# Altium schematic symbol library 1.1 - 电源类芯片.SchLib: 82 symbols
Pins are listed as number, name and electrical type; pins without a type are passive.

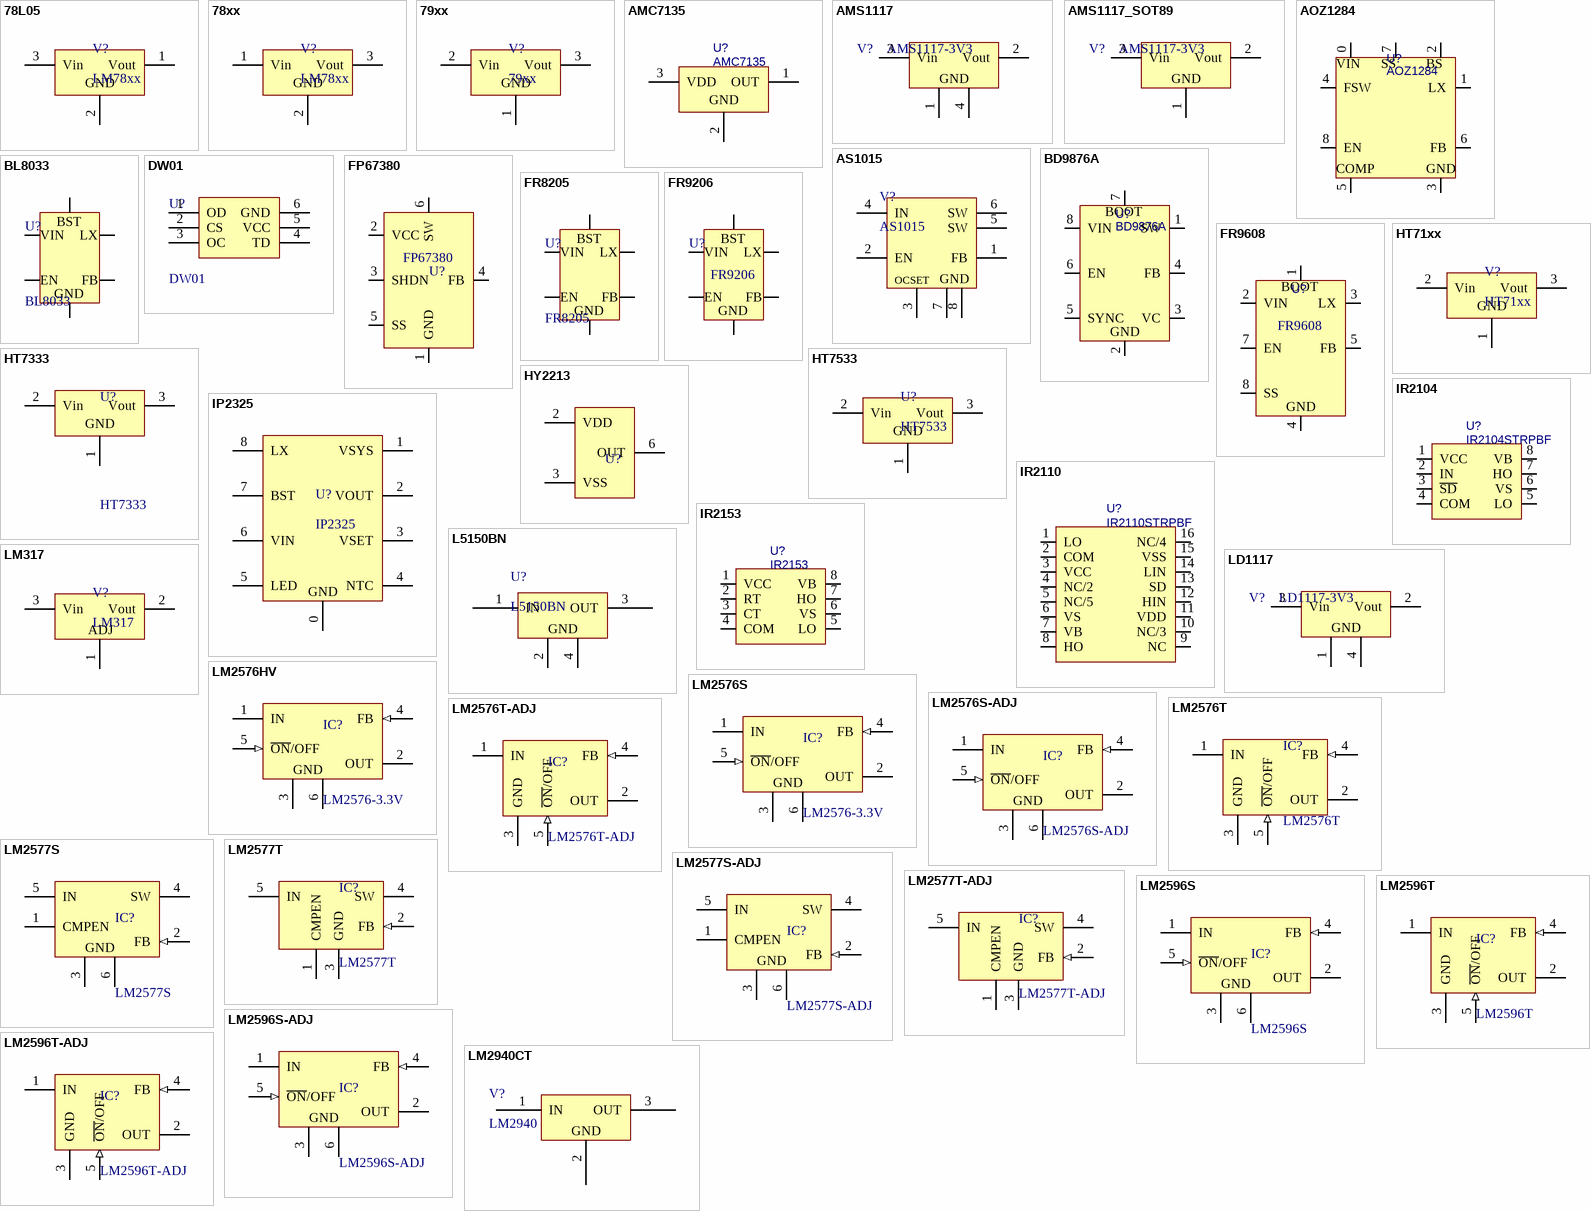
[diagram p0: symbols 78L05 to LM2940CT]

## 78L05
designator V?, comment LM78xx
5V/100mA线性稳压器; BOM名称: 线性稳压芯片; 封装库来自淘宝卖家 ID：黄晶宝石: 其他店铺购入均为盗版，请立即申请退款，本店现金奖励5~20元; 联系卖家 免费查找封装: 唯一出售店铺网址https://shop463601444.taobao.com
footprint TO92 (TO, Flat Index; 3 In-Line, Axial Leads; Body Dia. 4.8mm; Leads 0.48 x 0.5 mm (max))
pins: 1 Vout, 2 GND, 3 Vin

## 78xx
designator V?, comment LM78xx
LM78XX系列线性稳压芯片; BOM名称: 线性稳压芯片; 封装库来自淘宝卖家 ID：黄晶宝石: 其他店铺购入均为盗版，请立即申请退款，本店现金奖励5~20元; 联系卖家 免费查找封装: 唯一出售店铺网址https://shop463601444.taobao.com
footprint TO252 (252晶体管)
footprint TO220A (220，3脚晶体管)
footprint TO220B (220，3脚晶体管)
footprint TO220C (220，3脚晶体管)
pins: 1 Vin, 2 GND, 3 Vout

## 79xx
designator V?
LM79XX系列线性稳压芯片; BOM名称: 线性稳压芯片; 封装库来自淘宝卖家 ID：黄晶宝石: 其他店铺购入均为盗版，请立即申请退款，本店现金奖励5~20元; 联系卖家 免费查找封装: 唯一出售店铺网址https://shop463601444.taobao.com
footprint TO252 (252晶体管)
footprint TO220A (220，3脚晶体管)
footprint TO220B (220，3脚晶体管)
footprint TO220C (220，3脚晶体管)
pins: 1 GND, 2 Vin, 3 Vout

## AMC7135
designator U?
恒流350mA LED驱动芯片; 封装库来自淘宝卖家 ID：黄晶宝石: 其他店铺购入均为盗版，请立即申请退款，本店现金奖励5~20元; 联系卖家 免费查找封装: 唯一出售店铺网址https://shop463601444.taobao.com
footprint SOT-89
pins: 1 OUT, 2 GND, 3 VDD

## AMS1117
designator V?, comment AMS1117-3V3
三端稳压芯片; BOM名称: 稳压芯片; 封装库来自淘宝卖家 ID：黄晶宝石: 其他店铺购入均为盗版，请立即申请退款，本店现金奖励5~20元; 联系卖家 免费查找封装: 唯一出售店铺网址https://shop463601444.taobao.com
footprint SOT223_L (6.4x7x1.6mm(长宽高))
footprint SOT223_M (6.4x7x1.6mm(长宽高))
footprint SOT223_N (6.4x7x1.6mm(长宽高))
pins: 1 GND, 2 Vout, 3 Vin, 4 GND

## AMS1117_SOT89
designator V?, comment AMS1117-3V3
三端稳压芯片; BOM名称: 稳压芯片; 封装库来自淘宝卖家 ID：黄晶宝石: 其他店铺购入均为盗版，请立即申请退款，本店现金奖励5~20元; 联系卖家 免费查找封装: 唯一出售店铺网址https://shop463601444.taobao.com
footprint SOT89_L (4.6x4.3x1.6mm(长宽高))
footprint SOT89_N (4.6x4.3x1.6mm(长宽高))
footprint SOT89_M (4.6x4.3x1.6mm(长宽高))
pins: 1 GND, 2 Vout, 3 Vin

## AOZ1284
designator U?
4A/36V DC-DC降压芯片, Adjustable  switching  frequency  from  200kHz  to  2MHz; 联系卖家 免费查找封装: 唯一出售店铺网址https://shop463601444.taobao.com
footprint SOIC-8_EP (5*6*1.8mm（长宽高）封装库来自淘宝卖家 ID：黄晶宝石)
pins: 0 VIN "Supply Voltage Pin.", 1 LX "PWM Output Pin.  Connect to inductor.", 2 BST "Bootstrap Voltage Pin. Driver supply for High Side NMOS.  Connected to 100nF capacitor between BST and LX.", 3 GND "Ground Pin.", 4 FSW "Frequency Bias Pin.  Connect to resistor to determine switching frequency.", 5 COMP "Compensation Pin.  Connect to Resistor and Capacitor for system stability.", 6 FB "Feedback Pin.  It is regulated to 0.8V.  The FB pin is used to determine the PWM output voltage via a resistor divider between the Output and Ground.", 7 SS "Soft Start Pin.", 8 EN "Enable Pin."
text: BS

## AS1015
designator V?
可调升压芯片; 封装库来自淘宝卖家 ID：黄晶宝石: 其他店铺购入均为盗版，请立即申请退款，本店现金奖励5~20元; 联系卖家 免费查找封装: 唯一出售店铺网址https://shop463601444.taobao.com; BOM名称: 可调升压芯片
footprint SOP8_N (5*6*1.8mm（长宽高）)
footprint SOP8_L (5*6*1.8mm（长宽高）)
footprint SOP8_M (5*6*1.8mm（长宽高）)
pins: 1 FB (power), 2 EN (power), 3 OCSET (power), 4 IN (power), 5 SW (power), 6 SW (power), 7 GND (power), 8 GND (power)

## BD9876A
designator U?
3A, 42V, 300kHz Step-Down Converter; 联系卖家 免费查找封装: 唯一出售店铺网址https://shop463601444.taobao.com
footprint SOIC-8_EP (5*6*1.8mm（长宽高)
pins: 0 GND "Ground Pin.", 1 SW "PWM Output Pin.  Connect to inductor.", 2 GND "Ground Pin.", 3 VC "Error amplifier output", 4 FB "Feedback Input. The feedback threshold is 1.222V.", 5 SYNC "Input pin of an external signal for the device synchronized by external signal", 6 EN "Enable Pin.", 7 BOOT "Bootstrap Voltage Pin. Driver supply for High Side NMOS.  Connected to 100nF capacitor between BST and LX.", 8 VIN "Supply Voltage Pin."

## BL8033
designator U?
16V/3A，500KHz, 同步DC-DC降压芯片; BOM名称: DC降压芯片; Datasheet: http://www.belling.com.cn/media/file_object/bel_product/BL8033/datasheet/BL8033_V1.6_en.pdf
footprint SOT23-6L (3x1.6x1.1mm(长宽高))
footprint SOT23-6N (3x1.6x1.1mm(长宽高))
footprint SOT23-6M (3x1.6x1.1mm(长宽高))
pins: 1 GND, 2 SW, 3 VIN, 4 FB, 5 EN, 6 BST
text: LX

## DW01
designator U?
锂电池过流保护IC; BOM名称: 过流保护IC; 封装库来自淘宝卖家 ID：黄晶宝石: 其他店铺购入均为盗版，请立即申请退款，本店现金奖励5~20元; 联系卖家 免费查找封装: 唯一出售店铺网址https://shop463601444.taobao.com
footprint SOT23-6L (3x1.6x1.1mm(长宽高))
footprint SOT23-6N (3x1.6x1.1mm(长宽高))
footprint SOT23-6M (3x1.6x1.1mm(长宽高))
pins: 1 OD, 2 CS, 3 OC, 4 TD, 5 VCC, 6 GND

## FP67380
designator U?, comment FP67380WD  (value not drawn)
1.25MHz 2.5A Current-Mode Step-Up DC/DC Converter; BOM名称: 可调升压芯片; 封装库来自淘宝卖家 ID：黄晶宝石: 其他店铺购入均为盗版，请立即申请退款，本店现金奖励5~20元; 联系卖家 免费查找封装: 唯一出售店铺网址https://shop463601444.taobao.com
footprint DFN6 2x2_L
pins: 0 GND "Ground.", 1 GND "Ground.", 2 VCC "Internal Bias Voltage Input. Connect IN to the input voltage source. Bypass IN to GND with a 10uF or greater capacitor as close to IN as possible.", 3 SHDN "Shutdown Input. Drive SHDN low to turn off the converter. To automatically start the converter, connect SHDN to IN.", 4 FB "Feedback Pin. FB = 0.6V.", 5 SS "Soft-start Input. Connect a soft-start capacitor from SS to GND to soft-start the converter. Leave SS open to inform internal soft-start function.", 6 SW "Switch Node Pin. Connect LX to the inductor and output rectifier."

## FR8205
designator U?
18V, 3A, 500KHz Synchronous Step-DownDC/DC Converter; BOM名称: DC降压芯片; Datasheet: http://www.belling.com.cn/media/file_object/bel_product/BL8033/datasheet/BL8033_V1.6_en.pdf
footprint SOT23-6L (3x1.6x1.1mm(长宽高))
footprint SOT23-6N (3x1.6x1.1mm(长宽高))
footprint SOT23-6M (3x1.6x1.1mm(长宽高))
pins: 1 BST "High side gate drive boost pin.", 2 GND "Ground pin.", 3 FB "0.6v Voltage feedback input pin.", 4 EN "Enable input pin. Connect VIN with a 100kΩ resistor for self-startup.", 5 VIN "Power supply input pin.", 6 LX "Power switching node."

## FR9206
designator U?  (value not drawn)
18V, 3A, 500KHz Synchronous Step-DownDC/DC Converter; BOM名称: DC降压芯片; Datasheet: http://www.belling.com.cn/media/file_object/bel_product/BL8033/datasheet/BL8033_V1.6_en.pdf
footprint SOT23-6L (3x1.6x1.1mm(长宽高))
footprint SOT23-6N (3x1.6x1.1mm(长宽高))
footprint SOT23-6M (3x1.6x1.1mm(长宽高))
footprint SOT563-6 (封装库来自淘宝卖家 ID：黄晶宝石); pin to pad 1>3 3>1 4>6 6>4
pins: 1 GND "Ground pin.", 2 LX "Power switching node.", 3 VIN "Power supply input pin.", 4 FB "0.6v Voltage feedback input pin.", 5 EN "Enable input pin. Connect VIN with a 100kΩ resistor for self-startup.", 6 BST "High side gate drive boost pin."

## FR9608
designator U?, comment FR9608SP  (value not drawn)
28V, 3A, 340KHz Synchronous Step-Down; 联系卖家 免费查找封装: 唯一出售店铺网址https://shop463601444.taobao.com
footprint SOIC-8_EP (5*6*1.8mm（长宽高)
pins: 0 GND "Ground Pin.", 1 BST "Bootstrap Voltage Pin. Driver supply for High Side NMOS.  Connected to 10nF~100nF capacitor between BST and LX.", 2 VIN "Supply Voltage Pin.", 3 LX "PWM Output Pin.  Connect to inductor.", 4 GND "Ground Pin.", 5 FB "Feedback Input. The feedback threshold is 0.925V.", 6 NC hidden "No connection.", 7 EN "Enable Input Pin. Pull high to turn on IC, and pull low to turn off IC. Connect VIN with a 100kΩ resistor for  self-startup.", 8 SS "Soft-start Pin. When the device turns on, a 6μA current begins charging the capacitor which is connected from SS pin to GND. If a 0.1μF capacitor is connected from SS pin to  GND, the soft start time will be 15ms."
text: BOOT

## HT71xx
designator V?
LDO线性稳压芯片; 封装库来自淘宝卖家 ID：黄晶宝石: 其他店铺购入均为盗版，请立即申请退款，本店现金奖励5~20元; 联系卖家 免费查找封装: 唯一出售店铺网址https://shop463601444.taobao.com; BOM名称: LDO线性稳压芯片
footprint SOT89_L (4.6x4.3x1.6mm(长宽高))
footprint SOT89_N (4.6x4.3x1.6mm(长宽高))
footprint SOT89_M (4.6x4.3x1.6mm(长宽高))
footprint TO92A (92晶体管)
footprint TO92B (92晶体管)
pins: 1 GND, 2 Vin, 3 Vout

## HT7333
designator U?
LDO线性稳压芯片; 封装库来自淘宝卖家 ID：黄晶宝石: 其他店铺购入均为盗版，请立即申请退款，本店现金奖励5~20元; 联系卖家 免费查找封装: 唯一出售店铺网址https://shop463601444.taobao.com
footprint SOT89_N (4.6x4.3x1.6mm(长宽高))
pins: 1 GND, 2 Vin, 3 Vout

## HT7533
designator U?
LDO线性稳压芯片; 封装库来自淘宝卖家 ID：黄晶宝石: 其他店铺购入均为盗版，请立即申请退款，本店现金奖励5~20元; 联系卖家 免费查找封装: 唯一出售店铺网址https://shop463601444.taobao.com
footprint SOT89_N (4.6x4.3x1.6mm(长宽高))
pins: 1 GND, 2 Vin, 3 Vout

## HY2213
designator U?  (value not drawn)
HY221系列，1节锂离子/锂聚合物电池充电平衡IC; BOM名称: 1节锂离子/锂聚合物电池充电平衡IC; ComponentLink1Description: Datasheet; ComponentLink1URL: https://www.hycontek.com/wp-content/uploads/DS-HY2213_SC.pdf
footprint SOT23-6N (3x1.6x1.1mm(长宽高))
footprint SOT23-6L (3x1.6x1.1mm(长宽高))
footprint SOT23-6M (3x1.6x1.1mm(长宽高))
pins: 1 NC hidden, 2 VDD, 3 VSS, 4 NC hidden, 5 NC hidden, 6 OUT

## IP2325
designator U?
5V输入双节串联锂电池升压充电IC; BOM名称: 锂电池充电管理; 封装库来自淘宝卖家 ID：黄晶宝石: 其他店铺购入均为盗版，请立即申请退款，本店现金奖励5~20元; 联系卖家 免费查找封装: 唯一出售店铺网址https://shop463601444.taobao.com
footprint SOIC-8_EP (5*6*1.8mm（长宽高）封装库来自淘宝卖家 ID：黄晶宝石)
pins: 0 EPAD, 1 VSYS, 2 VOUT, 3 VSET, 4 NTC, 5 LED, 6 VIN, 7 BST, 8 LX
text: GND

## IR2104
designator U?, comment IR2104STRPBF
600V半桥驱动器; 封装库来自淘宝卖家 ID：黄晶宝石: 其他店铺购入均为盗版，请立即申请退款，本店现金奖励5~20元; 联系卖家 免费查找封装: 唯一出售店铺网址https://shop463601444.taobao.com
footprint SOIC-8_150mil (封装库来自淘宝卖家 ID：黄晶宝石)
pins: 1 VCC, 2 IN, 3 ~{SD}, 4 COM, 5 LO, 6 VS, 7 HO, 8 VB

## IR2110
designator U?, comment IR2110STRPBF
500V高侧和低侧栅极驱动器; 封装库来自淘宝卖家 ID：黄晶宝石: 其他店铺购入均为盗版，请立即申请退款，本店现金奖励5~20元; 联系卖家 免费查找封装: 唯一出售店铺网址https://shop463601444.taobao.com
footprint SOIC-16W (封装库来自淘宝卖家 ID：黄晶宝石，其他均为盗版)
pins: 1 LO, 2 COM, 3 VCC, 4 NC/2, 5 NC/5, 6 VS, 7 VB, 8 HO, 9 NC, 10 NC/3, 11 VDD, 12 HIN, 13 SD, 14 LIN, 15 VSS, 16 NC/4

## IR2153
designator U?
自振荡600V半桥栅极驱动器; 封装库来自淘宝卖家 ID：黄晶宝石: 其他店铺购入均为盗版，请立即申请退款，本店现金奖励5~20元; 联系卖家 免费查找封装: 唯一出售店铺网址https://shop463601444.taobao.com
footprint DIP8-300 (9.4*7.6*3.8(长宽高）)
pins: 1 VCC, 2 RT, 3 CT, 4 COM, 5 LO, 6 VS, 7 HO, 8 VB

## L5150BN
designator U?
5V稳压芯片; 封装库来自淘宝卖家 ID：黄晶宝石: 其他店铺购入均为盗版，请立即申请退款，本店现金奖励5~20元; 联系卖家 免费查找封装: 唯一出售店铺网址https://shop463601444.taobao.com
footprint SOT-223 (SOT223, 4-Leads, Body 6.5x3.5mm, Pitch 2.3mm, Lead Span 7mm, IPC Medium Density)
pins: 1 IN, 2 GND, 3 OUT, 4 GND

## LD1117
designator V?, comment LD1117-3V3
三端稳压芯片; BOM名称: 稳压芯片; 封装库来自淘宝卖家 ID：黄晶宝石: 其他店铺购入均为盗版，请立即申请退款，本店现金奖励5~20元; 联系卖家 免费查找封装: 唯一出售店铺网址https://shop463601444.taobao.com
footprint SOT223_L (6.4x7x1.6mm(长宽高))
footprint SOT223_M (6.4x7x1.6mm(长宽高))
footprint SOT223_N (6.4x7x1.6mm(长宽高))
pins: 1 GND, 2 Vout, 3 Vin, 4 GND

## LM317
designator V?
可调线性稳压芯片; 封装库来自淘宝卖家 ID：黄晶宝石: 其他店铺购入均为盗版，请立即申请退款，本店现金奖励5~20元; 联系卖家 免费查找封装: 唯一出售店铺网址https://shop463601444.taobao.com; BOM名称: 可调线性稳压芯片
footprint TO252 (252晶体管)
footprint TO220A (220，3脚晶体管)
footprint TO220B (220，3脚晶体管)
pins: 1 ADJ, 2 Vout, 3 Vin

## LM2576HV
designator IC?, comment LM2576-3.3V
50V-3A DC-DC降压芯片; BOM名称: DC降压芯片; 封装库来自淘宝卖家 ID：黄晶宝石: 其他店铺购入均为盗版，请立即申请退款，本店现金奖励5~20元; 联系卖家 免费查找封装: 唯一出售店铺网址https://shop463601444.taobao.com
footprint TO263-5A (263，5脚晶体管)
pins: 1 IN (power), 2 OUT (power), 3 GND (power), 4 FB (in), 5 ~{ON}/OFF (in), 6 GND (power)

## LM2576S
designator IC?, comment LM2576-3.3V
3A DC-DC降压芯片; BOM名称: DC降压芯片; 封装库来自淘宝卖家 ID：黄晶宝石: 其他店铺购入均为盗版，请立即申请退款，本店现金奖励5~20元; 联系卖家 免费查找封装: 唯一出售店铺网址https://shop463601444.taobao.com
footprint TO263-5A (263，5脚晶体管)
pins: 1 IN (power), 2 OUT (power), 3 GND (power), 4 FB (in), 5 ~{ON}/OFF (in), 6 GND (power)

## LM2576S-ADJ
designator IC?
3A DC-DC可调降压芯片; BOM名称: DC降压芯片; 封装库来自淘宝卖家 ID：黄晶宝石: 其他店铺购入均为盗版，请立即申请退款，本店现金奖励5~20元; 联系卖家 免费查找封装: 唯一出售店铺网址https://shop463601444.taobao.com
footprint TO263-5A (263，5脚晶体管)
pins: 1 IN (power), 2 OUT (power), 3 GND (power), 4 FB (in), 5 ~{ON}/OFF (in), 6 GND (power)

## LM2576T
designator IC?
3A DC-DC降压芯片; BOM名称: DC降压芯片; 封装库来自淘宝卖家 ID：黄晶宝石: 其他店铺购入均为盗版，请立即申请退款，本店现金奖励5~20元; 联系卖家 免费查找封装: 唯一出售店铺网址https://shop463601444.taobao.com
footprint TO220-5A (220，5脚晶体管)
footprint TO220-5B (220，5脚晶体管)
footprint TO220-5C (220，5脚晶体管)
pins: 1 IN (power), 2 OUT (power), 3 GND (power), 4 FB (in), 5 ~{ON}/OFF (in)

## LM2576T-ADJ
designator IC?
3A DC-DC可调降压芯片; BOM名称: DC降压芯片; 封装库来自淘宝卖家 ID：黄晶宝石: 其他店铺购入均为盗版，请立即申请退款，本店现金奖励5~20元; 联系卖家 免费查找封装: 唯一出售店铺网址https://shop463601444.taobao.com
footprint TO220-5A (220，5脚晶体管)
footprint TO220-5B (220，5脚晶体管)
footprint TO220-5C (220，5脚晶体管)
pins: 1 IN (power), 2 OUT (power), 3 GND (power), 4 FB (in), 5 ~{ON}/OFF (in)

## LM2577S
designator IC?
3A DC-DC升压芯片; BOM名称: DC升压芯片; 封装库来自淘宝卖家 ID：黄晶宝石: 其他店铺购入均为盗版，请立即申请退款，本店现金奖励5~20元; 联系卖家 免费查找封装: 唯一出售店铺网址https://shop463601444.taobao.com
footprint TO263-5A (263，5脚晶体管)
pins: 1 CMPEN, 2 FB (in), 3 GND (power), 4 SW (power), 5 IN (power), 6 GND (power)

## LM2577S-ADJ
designator IC?
3A DC-DC可调升压芯片; BOM名称: DC升压芯片; 封装库来自淘宝卖家 ID：黄晶宝石: 其他店铺购入均为盗版，请立即申请退款，本店现金奖励5~20元; 联系卖家 免费查找封装: 唯一出售店铺网址https://shop463601444.taobao.com
footprint TO263-5A (263，5脚晶体管)
pins: 1 CMPEN, 2 FB (in), 3 GND (power), 4 SW (power), 5 IN (power), 6 GND (power)

## LM2577T
designator IC?
3A DC-DC升压芯片; BOM名称: DC升压芯片; 封装库来自淘宝卖家 ID：黄晶宝石: 其他店铺购入均为盗版，请立即申请退款，本店现金奖励5~20元; 联系卖家 免费查找封装: 唯一出售店铺网址https://shop463601444.taobao.com
footprint TO220-5A (220，5脚晶体管)
footprint TO220-5B (220，5脚晶体管)
footprint TO220-5C (220，5脚晶体管)
pins: 1 CMPEN, 2 FB (in), 3 GND (power), 4 SW (power), 5 IN (power)

## LM2577T-ADJ
designator IC?
3A DC-DC可调升压芯片; BOM名称: DC升压芯片; 封装库来自淘宝卖家 ID：黄晶宝石: 其他店铺购入均为盗版，请立即申请退款，本店现金奖励5~20元; 联系卖家 免费查找封装: 唯一出售店铺网址https://shop463601444.taobao.com
footprint TO220-5A (220，5脚晶体管)
footprint TO220-5B (220，5脚晶体管)
footprint TO220-5C (220，5脚晶体管)
pins: 1 CMPEN, 2 FB (in), 3 GND (power), 4 SW (power), 5 IN (power)

## LM2596S
designator IC?
3A DC-DC降压芯片; BOM名称: DC降压芯片; 封装库来自淘宝卖家 ID：黄晶宝石: 其他店铺购入均为盗版，请立即申请退款，本店现金奖励5~20元; 联系卖家 免费查找封装: 唯一出售店铺网址https://shop463601444.taobao.com
footprint TO263-5A (263，5脚晶体管)
pins: 1 IN (power), 2 OUT (power), 3 GND (power), 4 FB (in), 5 ~{ON}/OFF (in), 6 GND (power)

## LM2596S-ADJ
designator IC?
3A DC-DC可调降压芯片; BOM名称: DC降压芯片; 封装库来自淘宝卖家 ID：黄晶宝石: 其他店铺购入均为盗版，请立即申请退款，本店现金奖励5~20元; 联系卖家 免费查找封装: 唯一出售店铺网址https://shop463601444.taobao.com
footprint TO263-5A (263，5脚晶体管)
pins: 1 IN (power), 2 OUT (power), 3 GND (power), 4 FB (in), 5 ~{ON}/OFF (in), 6 GND (power)

## LM2596T
designator IC?
3A DC-DC降压芯片; BOM名称: DC降压芯片; 封装库来自淘宝卖家 ID：黄晶宝石: 其他店铺购入均为盗版，请立即申请退款，本店现金奖励5~20元; 联系卖家 免费查找封装: 唯一出售店铺网址https://shop463601444.taobao.com
footprint TO220-5A (220，5脚晶体管)
footprint TO220-5B (220，5脚晶体管)
footprint TO220-5C (220，5脚晶体管)
pins: 1 IN (power), 2 OUT (power), 3 GND (power), 4 FB (in), 5 ~{ON}/OFF (in)

## LM2596T-ADJ
designator IC?
3A DC-DC可调降压芯片; BOM名称: DC降压芯片; 封装库来自淘宝卖家 ID：黄晶宝石: 其他店铺购入均为盗版，请立即申请退款，本店现金奖励5~20元; 联系卖家 免费查找封装: 唯一出售店铺网址https://shop463601444.taobao.com
footprint TO220-5A (220，5脚晶体管)
footprint TO220-5B (220，5脚晶体管)
footprint TO220-5C (220，5脚晶体管)
pins: 1 IN (power), 2 OUT (power), 3 GND (power), 4 FB (in), 5 ~{ON}/OFF (in)

## LM2940CT
designator V?, comment LM2940
直插-低压差线性稳压器; BOM名称: 5V稳压芯片; 封装库来自淘宝卖家 ID：黄晶宝石: 其他店铺购入均为盗版，请立即申请退款，本店现金奖励5~20元; 联系卖家 免费查找封装: 唯一出售店铺网址https://shop463601444.taobao.com
footprint TO220A (220，3脚晶体管)
footprint TO220B (220，3脚晶体管)
pins: 1 IN (power), 2 GND (power), 3 OUT (power)

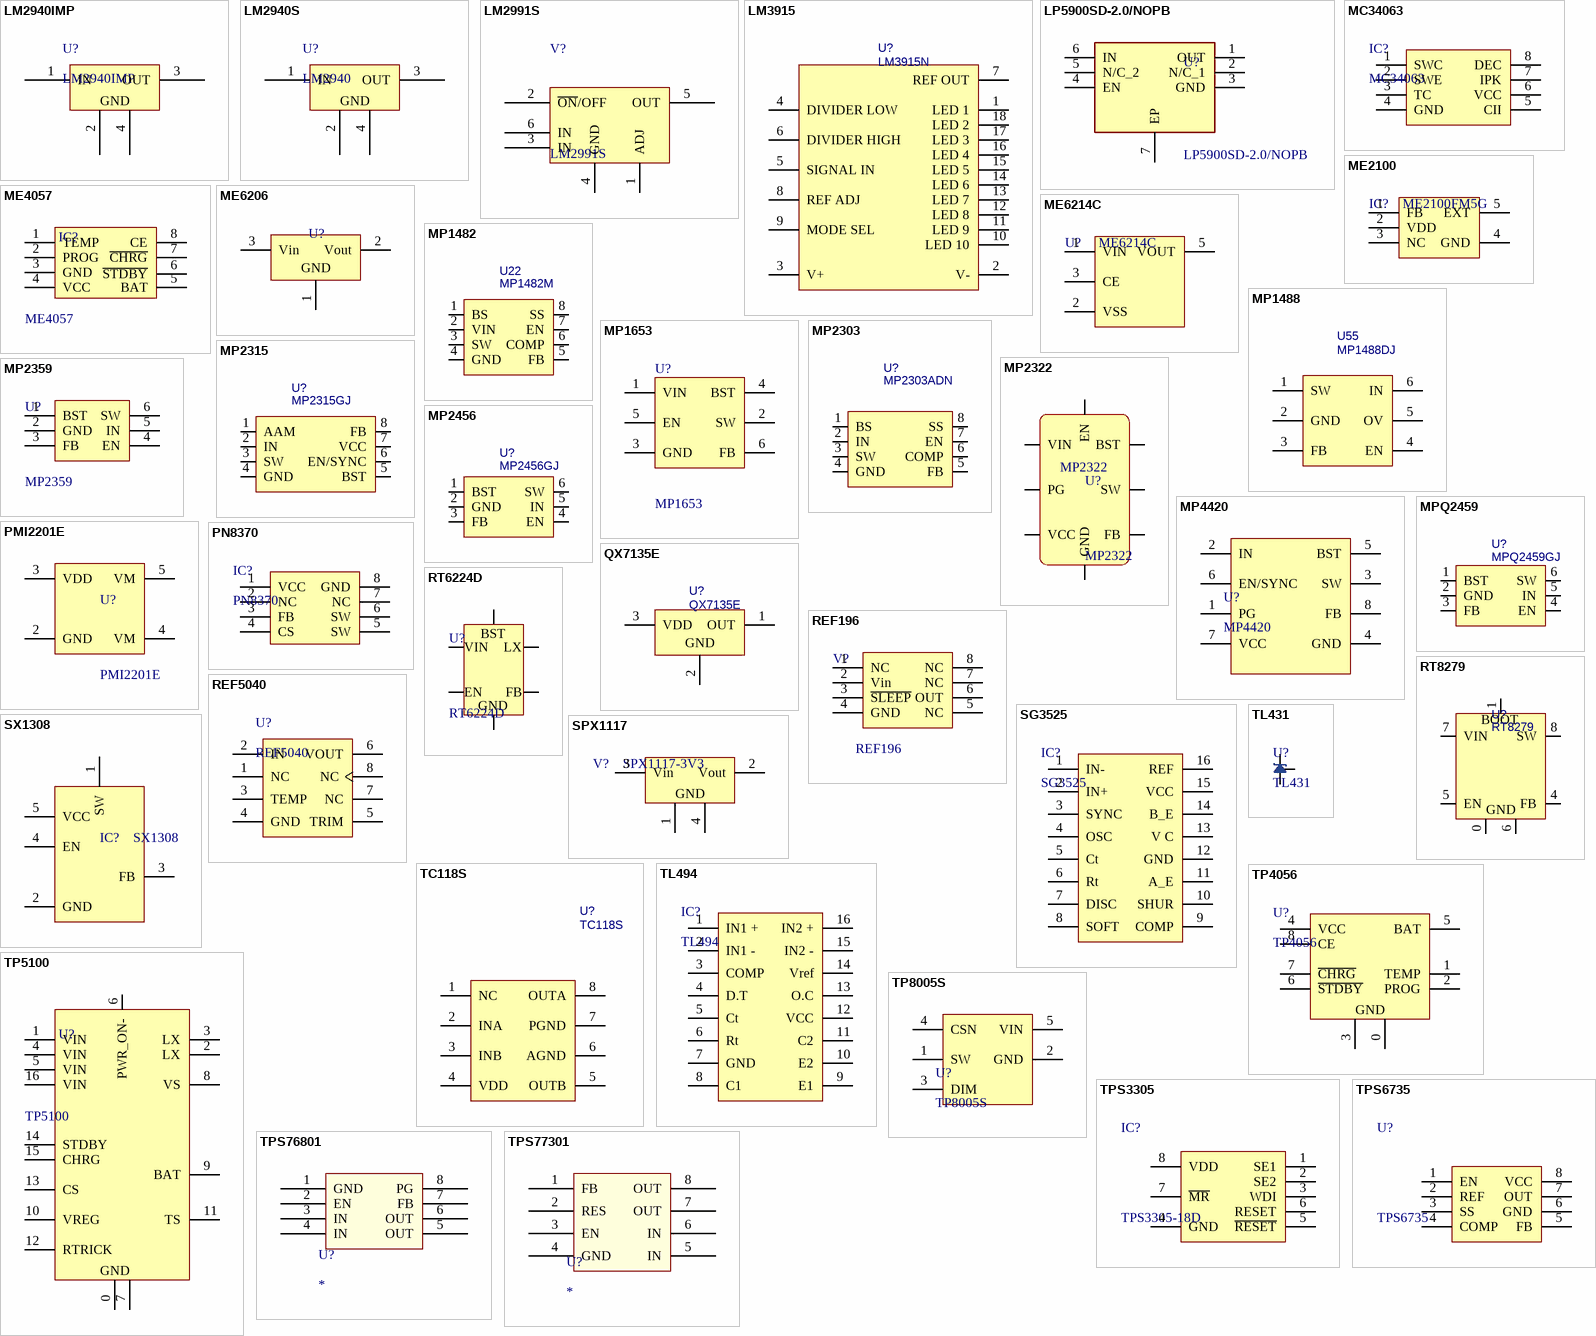
[diagram p1: symbols LM2940IMP to TPS77301]

## LM2940IMP
designator U?
贴片-低压差线性稳压器; 封装库来自淘宝卖家 ID：黄晶宝石: 其他店铺购入均为盗版，请立即申请退款，本店现金奖励5~20元; 联系卖家 免费查找封装: 唯一出售店铺网址https://shop463601444.taobao.com
footprint SOT223_M (SOT223, 4-Leads, Body 6.5x3.5mm, Pitch 2.3mm, Lead Span 7mm, IPC Low Density)
pins: 1 IN (power), 2 GND (power), 3 OUT (power), 4 GND (power)

## LM2940S
designator U?, comment LM2940
贴片-低压差线性稳压器; 封装库来自淘宝卖家 ID：黄晶宝石: 其他店铺购入均为盗版，请立即申请退款，本店现金奖励5~20元; 联系卖家 免费查找封装: 唯一出售店铺网址https://shop463601444.taobao.com
footprint TO263-3 (263，3脚晶体管)
pins: 1 IN (power), 2 GND (power), 3 OUT (power), 4 GND (power)

## LM2991S
designator V?
可调稳压芯片; 封装库来自淘宝卖家 ID：黄晶宝石: 其他店铺购入均为盗版，请立即申请退款，本店现金奖励5~20元; 联系卖家 免费查找封装: 唯一出售店铺网址https://shop463601444.taobao.com; BOM名称: 可调稳压芯片
footprint TO220-5A (220，5脚晶体管)
footprint TO220-5B (220，5脚晶体管)
footprint TO220-5C (220，5脚晶体管)
footprint TO263-5A (263，5脚晶体管)
footprint TO263-5B (263，5脚晶体管)
pins: 1 ADJ, 2 ~{ON}/OFF, 3 IN, 4 GND, 5 OUT, 6 IN

## LM3915
designator U?, comment LM3915N
10灯电平指示灯控制芯片; 封装库来自淘宝卖家 ID：黄晶宝石: 其他店铺购入均为盗版，请立即申请退款，本店现金奖励5~20元; 联系卖家 免费查找封装: 唯一出售店铺网址https://shop463601444.taobao.com
footprint DIP18-300 (23*7.6*3.8(长宽高） 淘宝ID:黄晶宝石   店铺网址:https://shop463601444.taobao.com)
pins: 1 LED 1, 2 V-, 3 V+, 4 DIVIDER LOW, 5 SIGNAL IN, 6 DIVIDER HIGH, 7 REF OUT, 8 REF ADJ, 9 MODE SEL, 10 LED 10, 11 LED 9, 12 LED 8, 13 LED 7, 14 LED 6, 15 LED 5, 16 LED 4, 17 LED 3, 18 LED 2

## LP5900SD-2.0/NOPB
designator U?
150mA Ultralow-Noise LDO for RF and Analog Circuits Requires No Bypass Capacitor; Manufacturer_Name: Texas Instruments; Geometry.Height: 0.8mm; Manufacturer_Part_Number: LP5900SD-2.0/NOPB; Mouser Part Number: 926-LP5900SD20NOPB; Mouser Price/Stock: https://www.mouser.co.uk/ProductDetail/Texas-Instruments/LP5900SD-2.0-NOPB?qs=8uBHJDVwVqzXv4AoOViTpw%3D%3D; Arrow Part Number: LP5900SD-2.0/NOPB; Arrow Price/Stock: https://www.arrow.com/en/products/lp5900sd-2.0nopb/texas-instruments; Datasheet Link: http://www.ti.com/lit/gpn/LP5900
footprint WSON-6_L2.0-W2.0-P0.65-BL-EP
footprint WSON-6_P250X220X80-7N
pins: 1 OUT, 2 N/C_1, 3 GND, 4 EN, 5 N/C_2, 6 IN, 7 EP

## MC34063
designator IC?
DC升降压芯片; 封装库来自淘宝卖家 ID：黄晶宝石: 其他店铺购入均为盗版，请立即申请退款，本店现金奖励5~20元; 联系卖家 免费查找封装: 唯一出售店铺网址https://shop463601444.taobao.com; BOM名称: DC升降压芯片
footprint SOP8_L (5*6*1.8mm（长宽高）)
footprint SOP8_N (5*6*1.8mm（长宽高）)
footprint SOP8_M (5*6*1.8mm（长宽高）)
footprint DIP8-300 (9.4*7.6*3.8(长宽高）)
pins: 1 SWC, 2 SWE, 3 TC, 4 GND, 5 CII, 6 VCC, 7 IPK, 8 DEC

## ME2100
designator IC?, comment ME2100FM5G
可调升压芯片; 封装库来自淘宝卖家 ID：黄晶宝石: 其他店铺购入均为盗版，请立即申请退款，本店现金奖励5~20元; 联系卖家 免费查找封装: 唯一出售店铺网址https://shop463601444.taobao.com; BOM名称: 可调升压芯片
footprint SOT23-5N (3x1.6x1.1mm(长宽高))
footprint SOT23-5L (3x1.6x1.1mm(长宽高))
footprint SOT23-5M (3x1.6x1.1mm(长宽高))
pins: 1 FB, 2 VDD, 3 NC, 4 GND, 5 EXT

## ME4057
designator IC?
锂电池充电管理IC; BOM名称: 充电管理IC; 封装库来自淘宝卖家 ID：黄晶宝石: 其他店铺购入均为盗版，请立即申请退款，本店现金奖励5~20元; 联系卖家 免费查找封装: 唯一出售店铺网址https://shop463601444.taobao.com
footprint SOP8_N (5*6*1.8mm（长宽高）)
footprint SOP8_L (5*6*1.8mm（长宽高）)
footprint SOP8_M (5*6*1.8mm（长宽高）)
pins: 1 TEMP, 2 PROG, 3 GND, 4 VCC, 5 BAT, 6 ~{STDBY}, 7 ~{CHRG}, 8 CE

## ME6206
designator U?  (value not drawn)
3.3V 低压差线性稳压器; 封装库来自淘宝卖家 ID：黄晶宝石: 其他店铺购入均为盗版，请立即申请退款，本店现金奖励5~20元; 联系卖家 免费查找封装: 唯一出售店铺网址https://shop463601444.taobao.com
footprint SOT23-3N (SOT23, 3-Leads, Body 2.9x1.3mm, Pitch 0.95mm, Lead Span 2.4mm, IPC Medium Density)
pins: 1 GND, 2 Vout, 3 Vin

## ME6214C
designator U?
LDO：0.7uA超低功耗、低压差大电流 / 代换：SSP7603; BOM名称: 可调升压芯片; 封装库来自淘宝卖家 ID：黄晶宝石: 其他店铺购入均为盗版，请立即申请退款，本店现金奖励5~20元; 联系卖家 免费查找封装: 唯一出售店铺网址https://shop463601444.taobao.com
footprint SOT23-5N (3x1.6x1.1mm(长宽高))
footprint SOT23-5L (3x1.6x1.1mm(长宽高))
footprint SOT23-5M (3x1.6x1.1mm(长宽高))
pins: 1 VIN, 2 VSS, 3 CE, 4 NC hidden, 5 VOUT

## MP1482
designator U22, comment MP1482M
2A/18V DC-DC降压芯片; 封装库来自淘宝卖家 ID：黄晶宝石: 其他店铺购入均为盗版，请立即申请退款，本店现金奖励5~20元; 联系卖家 免费查找封装: 唯一出售店铺网址https://shop463601444.taobao.com
footprint SOIC-8_150mil (封装库来自淘宝卖家 ID：黄晶宝石)
pins: 1 BS, 2 VIN, 3 SW, 4 GND, 5 FB, 6 COMP, 7 EN, 8 SS

## MP1488
designator U55, comment MP1488DJ
800mA 升压型LED驱动芯片; 封装库来自淘宝卖家 ID：黄晶宝石: 其他店铺购入均为盗版，请立即申请退款，本店现金奖励5~20元; 联系卖家 免费查找封装: 唯一出售店铺网址https://shop463601444.taobao.com
footprint SOT-23-6 (SOT-23, 6-Leads, Body 2.90x1.60mm, Pitch 0.95mm, IPC High Density)
pins: 1 SW, 2 GND, 3 FB, 4 EN, 5 OV, 6 IN

## MP1653
designator U?
3A/17V DC-DC降压芯片; 封装库来自淘宝卖家 ID：黄晶宝石: 其他店铺购入均为盗版，请立即申请退款，本店现金奖励5~20元; 联系卖家 免费查找封装: 唯一出售店铺网址https://shop463601444.taobao.com
footprint SOT563-6 (封装库来自淘宝卖家 ID：黄晶宝石)
pins: 1 VIN, 2 SW, 3 GND, 4 BST, 5 EN, 6 FB

## MP2303
designator U?, comment MP2303ADN
3A/28V DC-DC降压芯片; 封装库来自淘宝卖家 ID：黄晶宝石: 其他店铺购入均为盗版，请立即申请退款，本店现金奖励5~20元; 联系卖家 免费查找封装: 唯一出售店铺网址https://shop463601444.taobao.com
footprint SOIC-8_EP (5*6*1.8mm（长宽高）封装库来自淘宝卖家 ID：黄晶宝石)
pins: 1 BS, 2 IN, 3 SW, 4 GND, 5 FB, 6 COMP, 7 EN, 8 SS

## MP2315
designator U?, comment MP2315GJ
3A/24V DC-DC降压芯片; 封装库来自淘宝卖家 ID：黄晶宝石: 其他店铺购入均为盗版，请立即申请退款，本店现金奖励5~20元; 联系卖家 免费查找封装: 唯一出售店铺网址https://shop463601444.taobao.com
footprint SOT23-8N
pins: 1 AAM, 2 IN, 3 SW, 4 GND, 5 BST, 6 EN/SYNC, 7 VCC, 8 FB

## MP2322
designator U?
1A, 3-22V, 5μA IQ, Synchronous,  Step-Down Converter in 1.5x2mm QFN; BOM名称: DC降压芯片; Datasheet: http://www.belling.com.cn/media/file_object/bel_product/BL8033/datasheet/BL8033_V1.6_en.pdf
footprint DFN8 1.5x2_M
pins: 1 GND "Ground pin.", 2 VIN "Power supply input pin. The  MP2322  operates  from  a  +3V  to  +22V  input  rail.", 3 EN "Enable  control. Connect VIN with a 100kΩ resistor for self-startup.", 4 VCC "Internal  3.3V  LDO  output. Decouple   VCC  with a minimum 1μF ceramic capacitor placed  as  close  to  VCC  as  possible", 5 FB "0.6v Voltage feedback input pin.", 6 PG "Power  good  output.", 7 BST "Bootstrap.  Connect  a  capacitor  between  SW  and  BST  to  form  a  floating  supply   across the high-side switch driver.", 8 SW "Switch output. Connect SW using wide PCB traces."

## MP2359
designator U?
1.2A/24V DC-DC降压芯片; BOM名称: DC降压芯片; 封装库来自淘宝卖家 ID：黄晶宝石: 其他店铺购入均为盗版，请立即申请退款，本店现金奖励5~20元; 联系卖家 免费查找封装: 唯一出售店铺网址https://shop463601444.taobao.com
footprint SOT23-6L (3x1.6x1.1mm(长宽高))
footprint SOT23-6N (3x1.6x1.1mm(长宽高))
footprint SOT23-6M (3x1.6x1.1mm(长宽高))
pins: 1 BST, 2 GND, 3 FB, 4 EN, 5 IN, 6 SW

## MP2456
designator U?, comment MP2456GJ
0.5A/50V DC-DC降压芯片; 封装库来自淘宝卖家 ID：黄晶宝石: 其他店铺购入均为盗版，请立即申请退款，本店现金奖励5~20元; 联系卖家 免费查找封装: 唯一出售店铺网址https://shop463601444.taobao.com
footprint SOT23-6N
pins: 1 BST, 2 GND, 3 FB, 4 EN, 5 IN, 6 SW

## MP4420
designator U?
2A/36V DC-DC降压芯片; 封装库来自淘宝卖家 ID：黄晶宝石: 其他店铺购入均为盗版，请立即申请退款，本店现金奖励5~20元; 联系卖家 免费查找封装: 唯一出售店铺网址https://shop463601444.taobao.com
footprint SOT23-8N (SOT23, 8-Leads, Body 2.9x1.75mm, Pitch 0.65mm.)
pins: 1 PG, 2 IN, 3 SW, 4 GND, 5 BST, 6 EN/SYNC, 7 VCC, 8 FB

## MPQ2459
designator U?, comment MPQ2459GJ
0.5A/55V DC-DC降压芯片; 封装库来自淘宝卖家 ID：黄晶宝石: 其他店铺购入均为盗版，请立即申请退款，本店现金奖励5~20元; 联系卖家 免费查找封装: 唯一出售店铺网址https://shop463601444.taobao.com
footprint SOT23-6N
pins: 1 BST, 2 GND, 3 FB, 4 EN, 5 IN, 6 SW

## PMI2201E
designator U?
锂电池过流保护二合一IC; BOM名称: 过流保护IC; 封装库来自淘宝卖家 ID：黄晶宝石: 其他店铺购入均为盗版，请立即申请退款，本店现金奖励5~20元; 联系卖家 免费查找封装: 唯一出售店铺网址https://shop463601444.taobao.com
footprint SOT23-5 (SOT23, 5-Leads, Body 2.9x1.6mm, Pitch 0.95mm, IPC Medium Density)
footprint SOT23-5L (SOT23, 5-Leads, Body 2.9x1.6mm, Pitch 0.95mm, IPC High Density)
footprint SOT23-5M (SOT23, 5-Leads, Body 2.9x1.6mm, Pitch 0.95mm, IPC Low Density)
footprint SOT23-5N (SOT23, 5-Leads, Body 2.9x1.6mm, Pitch 0.95mm, IPC Medium Density)
pins: 1 NC hidden, 2 GND, 3 VDD, 4 VM, 5 VM

## PN8370
designator IC?
电源管理IC; 封装库来自淘宝卖家 ID：黄晶宝石: 其他店铺购入均为盗版，请立即申请退款，本店现金奖励5~20元; 联系卖家 免费查找封装: 唯一出售店铺网址https://shop463601444.taobao.com; BOM名称: 电源管理IC
footprint SOP8_N (5*6*1.8mm（长宽高）)
footprint SOP8_M (5*6*1.8mm（长宽高）)
footprint SOP8_L (5*6*1.8mm（长宽高）)
pins: 1 VCC, 2 NC, 3 FB, 4 CS, 5 SW, 6 SW, 7 NC, 8 GND

## QX7135E
designator U?
恒流350mA LED驱动芯片; 封装库来自淘宝卖家 ID：黄晶宝石: 其他店铺购入均为盗版，请立即申请退款，本店现金奖励5~20元; 联系卖家 免费查找封装: 唯一出售店铺网址https://shop463601444.taobao.com
footprint SOT-89
pins: 1 OUT, 2 GND, 3 VDD

## REF196
designator V?
3V3基准电压源; 封装库来自淘宝卖家 ID：黄晶宝石: 其他店铺购入均为盗版，请立即申请退款，本店现金奖励5~20元; 联系卖家 免费查找封装: 唯一出售店铺网址https://shop463601444.taobao.com; BOM名称: 3V3基准电压
footprint SOP8_L (5*6*1.8mm（长宽高）)
footprint SOP8_N (5*6*1.8mm（长宽高）)
footprint SOP8_M (5*6*1.8mm（长宽高）)
pins: 1 NC, 2 Vin, 3 ~{SLEEP}, 4 GND, 5 NC, 6 OUT, 7 NC, 8 NC

## REF5040
designator U?
高精度电压基准; 封装库来自淘宝卖家 ID：黄晶宝石: 其他店铺购入均为盗版，请立即申请退款，本店现金奖励5~20元; 联系卖家 免费查找封装: 唯一出售店铺网址https://shop463601444.taobao.com; BOM名称: 高精度电压基准
footprint SOP8_L (5*6*1.8mm（长宽高）)
footprint SOP8_M (5*6*1.8mm（长宽高）)
footprint SOP8_N (5*6*1.8mm（长宽高）)
footprint DIP8-300 (9.4*7.6*3.8(长宽高）)
footprint DIP8-300_MH (带底座 9.4*7.6*3.8(长宽高）)
pins: 1 NC, 2 IN, 3 TEMP, 4 GND, 5 TRIM, 6 VOUT, 7 NC, 8 NC

## RT6224D
designator U?
3A,18V,1.4MHzACOTTMSynchronousStep-Down Converter; BOM名称: DC降压芯片; Datasheet: http://www.belling.com.cn/media/file_object/bel_product/BL8033/datasheet/BL8033_V1.6_en.pdf
footprint SOT23-6L (3x1.6x1.1mm(长宽高))
footprint SOT23-6N (3x1.6x1.1mm(长宽高))
footprint SOT23-6M (3x1.6x1.1mm(长宽高))
pins: 1 BST "High side gate drive boost pin.", 2 GND "Ground pin.", 3 FB "0.6v Voltage feedback input pin.", 4 EN "Enable input pin. Connect VIN with a 100kΩ resistor for self-startup.", 5 VIN "Power supply input pin.", 6 LX "Power switching node."

## RT8279
designator U?
5A, 36V, 500kHz Step-Down Converter; 联系卖家 免费查找封装: 唯一出售店铺网址https://shop463601444.taobao.com
footprint SOIC-8_EP (5*6*1.8mm（长宽高）封装库来自淘宝卖家 ID：黄晶宝石)
pins: 0 GND "Ground Pin.", 1 BOOT "Bootstrap Voltage Pin. Driver supply for High Side NMOS.  Connected to 100nF capacitor between BST and LX.", 2 NC hidden, 3 NC hidden, 4 FB "Feedback Input. The feedback threshold is 1.222V.", 5 EN "Enable Pin.", 6 GND "Ground Pin.", 7 VIN "Supply Voltage Pin.", 8 SW "PWM Output Pin.  Connect to inductor."

## SG3525
designator IC?
开关电源管理IC; BOM名称: 电源管理IC; 封装库来自淘宝卖家 ID：黄晶宝石: 其他店铺购入均为盗版，请立即申请退款，本店现金奖励5~20元; 联系卖家 免费查找封装: 唯一出售店铺网址https://shop463601444.taobao.com
footprint DIP16-300 (19.3*7.6*3.8(长宽高）)
footprint SOP16_L (10.3*6.2*1.8mm（长宽高）)
footprint SOP16_N (10.3*6.2*1.8mm（长宽高）)
footprint SOP16_M (10.3*6.2*1.8mm（长宽高）)
pins: 1 IN-, 2 IN+, 3 SYNC, 4 OSC, 5 Ct, 6 Rt, 7 DISC, 8 SOFT, 9 COMP, 10 SHUR, 11 A_E, 12 GND, 13 V C, 14 B_E, 15 VCC, 16 REF

## SPX1117
designator V?, comment SPX1117-3V3
三端稳压芯片; BOM名称: 稳压芯片; 封装库来自淘宝卖家 ID：黄晶宝石: 其他店铺购入均为盗版，请立即申请退款，本店现金奖励5~20元; 联系卖家 免费查找封装: 唯一出售店铺网址https://shop463601444.taobao.com
footprint SOT223_L (6.4x7x1.6mm(长宽高))
footprint SOT223_M (6.4x7x1.6mm(长宽高))
footprint SOT223_N (6.4x7x1.6mm(长宽高))
pins: 1 GND, 2 Vout, 3 Vin, 4 GND

## SX1308
designator IC?
可调2A升压芯片; BOM名称: 可调升压芯片; 封装库来自淘宝卖家 ID：黄晶宝石: 其他店铺购入均为盗版，请立即申请退款，本店现金奖励5~20元; 联系卖家 免费查找封装: 唯一出售店铺网址https://shop463601444.taobao.com
footprint SOT23-6N (3x1.6x1.1mm(长宽高))
footprint SOT23-6L (3x1.6x1.1mm(长宽高))
footprint SOT23-6M (3x1.6x1.1mm(长宽高))
pins: 1 SW, 2 GND, 3 FB, 4 EN, 5 VCC, 6 NC hidden

## TC118S
designator U?
单通道直流马达驱动器芯片; 封装库来自淘宝卖家 ID：黄晶宝石: 其他店铺购入均为盗版，请立即申请退款，本店现金奖励5~20元; 联系卖家 免费查找封装: 唯一出售店铺网址https://shop463601444.taobao.com
footprint SOP8 (封装库来自淘宝卖家 ID：黄晶宝石)
pins: 1 NC, 2 INA, 3 INB, 4 VDD, 5 OUTB, 6 AGND, 7 PGND, 8 OUTA

## TL431
designator U?
贴片可调基准稳压芯片; 封装库来自淘宝卖家 ID：黄晶宝石: 其他店铺购入均为盗版，请立即申请退款，本店现金奖励5~20元; 联系卖家 免费查找封装: 唯一出售店铺网址https://shop463601444.taobao.com; BOM名称: 可调基准稳压芯片
footprint SOT23-3N (3x1.3x1mm(长宽高))
footprint SOT23-3L (3x1.3x1mm(长宽高))
footprint SOT23-3M (3x1.3x1mm(长宽高))
footprint TO92UA (92晶体管)
footprint TO92B (92晶体管)
footprint TO92C (TO, Flat Index; 3 In-Line, Axial Leads; Body Dia. 4.5mm; Leads 0.51 x 0.48 mm (max))
pins: 1 REF, 2 CATHODE, 3 ANODE

## TL494
designator IC?
电源管理IC; 封装库来自淘宝卖家 ID：黄晶宝石: 其他店铺购入均为盗版，请立即申请退款，本店现金奖励5~20元; 联系卖家 免费查找封装: 唯一出售店铺网址https://shop463601444.taobao.com; BOM名称: 电源管理IC
footprint DIP16-300 (19.3*7.6*3.8(长宽高）)
footprint SOP16_L (10.3*6.2*1.8mm（长宽高）)
footprint SOP16_N (10.3*6.2*1.8mm（长宽高）)
footprint SOP16_M (10.3*6.2*1.8mm（长宽高）)
pins: 1 IN1 +, 2 IN1 -, 3 COMP, 4 D.T, 5 Ct, 6 Rt, 7 GND, 8 C1, 9 E1, 10 E2, 11 C2, 12 VCC, 13 O.C, 14 Vref, 15 IN2 -, 16 IN2 +

## TP4056
designator U?
锂电池充电管理; 封装库来自淘宝卖家 ID：黄晶宝石: 其他店铺购入均为盗版，请立即申请退款，本店现金奖励5~20元; 联系卖家 免费查找封装: 唯一出售店铺网址https://shop463601444.taobao.com; BOM名称: 锂电池充电管理
footprint SOIC-8_EP (5*6*1.8mm（长宽高）封装库来自淘宝卖家 ID：黄晶宝石)
pins: 0 EPAD, 1 TEMP, 2 PROG, 3 GND, 4 VCC, 5 BAT, 6 ~{STDBY}, 7 ~{CHRG}, 8 CE

## TP5100
designator U?
锂电池充电器芯片,2A开关降压8.4V/4.2V; BOM名称: 充电管理IC; ComponentLink1Description: Datasheet; ComponentLink1URL: http://www.tp-asic.com/res/tp-asic/pdres/201505/tp5100.pdf
footprint QFN16 4x4_L (16脚，长x宽x高：4x4x0.8mm，脚距：0.65mm)
footprint QFN16 4x4_M (16脚，长x宽x高：4x4x0.8mm，脚距：0.65mm)
footprint QFN16 4x4_N (16脚，长x宽x高：4x4x0.8mm，脚距：0.65mm)
pins: 0 PAD (power), 1 VIN, 2 LX, 3 LX, 4 VIN, 5 VIN, 6 PWR_ON-, 7 GND, 8 VS, 9 BAT, 10 VREG, 11 TS, 12 RTRICK, 13 CS, 14 STDBY, 15 CHRG, 16 VIN

## TP8005S
designator U?
36V/1.2A LED 驱动器; 封装库来自淘宝卖家 ID：黄晶宝石: 其他店铺购入均为盗版，请立即申请退款，本店现金奖励5~20元; 联系卖家 免费查找封装: 唯一出售店铺网址https://shop463601444.taobao.com
footprint SOT-89-5 (封装库来自淘宝卖家 ID：黄晶宝石)
pins: 1 SW, 2 GND, 3 DIM, 4 CSN, 5 VIN

## TPS3305
designator IC?, comment TPS3305-18D
DSP电源管理; 封装库来自淘宝卖家 ID：黄晶宝石: 其他店铺购入均为盗版，请立即申请退款，本店现金奖励5~20元; 联系卖家 免费查找封装: 唯一出售店铺网址https://shop463601444.taobao.com; BOM名称: DSP电源管理
footprint SSOP8_N (3*6.4*1.2mm（长宽高）)
footprint SSOP8_L (3*6.4*1.2mm（长宽高）)
footprint SSOP8_M (3*6.4*1.2mm（长宽高）)
pins: 1 SE1, 2 SE2, 3 WDI, 4 GND, 5 ~{RESET}, 6 RESET, 7 ~{MR}, 8 VDD

## TPS6735
designator U?
负电压转换芯片; BOM名称: 负电压芯片; 封装库来自淘宝卖家 ID：黄晶宝石: 其他店铺购入均为盗版，请立即申请退款，本店现金奖励5~20元; 联系卖家 免费查找封装: 唯一出售店铺网址https://shop463601444.taobao.com
footprint SOP8_N (5*6*1.8mm（长宽高）)
footprint SOP8_L (5*6*1.8mm（长宽高）)
footprint SOP8_M (5*6*1.8mm（长宽高）)
pins: 1 EN, 2 REF, 3 SS, 4 COMP, 5 FB, 6 GND, 7 OUT, 8 VCC

## TPS76801
designator U?
Ti LDO; 封装库来自淘宝卖家 ID：黄晶宝石: 其他店铺购入均为盗版，请立即申请退款，本店现金奖励5~20元; 联系卖家 免费查找封装: 唯一出售店铺网址https://shop463601444.taobao.com
footprint SOIC-8_150mil (封装库来自淘宝卖家 ID：黄晶宝石)
pins: 1 GND, 2 EN, 3 IN, 4 IN, 5 OUT, 6 OUT, 7 FB, 8 PG

## TPS77301
designator U?
Ti LDO; 封装库来自淘宝卖家 ID：黄晶宝石: 其他店铺购入均为盗版，请立即申请退款，本店现金奖励5~20元; 联系卖家 免费查找封装: 唯一出售店铺网址https://shop463601444.taobao.com
footprint MSOP8_N (塑封体长3mm，宽3mm，脚距0.65     淘宝ID:黄晶宝石)
pins: 1 FB, 2 RES, 3 EN, 4 GND, 5 IN, 6 IN, 7 OUT, 8 OUT

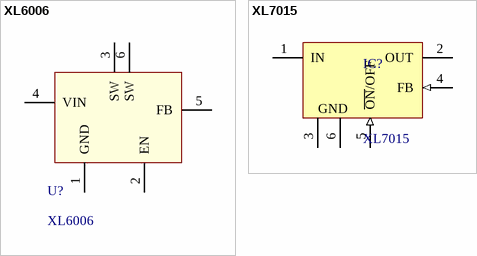
[diagram p2: symbols XL6006 to XL7015]

## XL6006
designator U?
升压型恒流LED驱动IC; 封装库来自淘宝卖家 ID：黄晶宝石: 其他店铺购入均为盗版，请立即申请退款，本店现金奖励5~20元; 联系卖家 免费查找封装: 唯一出售店铺网址https://shop463601444.taobao.com
footprint TO263-5A (263，5脚晶体管)
pins: 1 GND, 2 EN, 3 SW, 4 VIN, 5 FB, 6 SW

## XL7015
designator IC?
DC降压芯片; 封装库来自淘宝卖家 ID：黄晶宝石: 其他店铺购入均为盗版，请立即申请退款，本店现金奖励5~20元; 联系卖家 免费查找封装: 唯一出售店铺网址https://shop463601444.taobao.com; BOM名称: DC降压芯片
footprint TO252-5
pins: 1 IN (power), 2 OUT (power), 3 GND (power), 4 FB (in), 5 ~{ON}/OFF (in), 6 GND (power)